# Altium integrated library NodeMCU.IntLib: 1 symbol
Pins are listed as number, name and electrical type; pins without a type are passive.

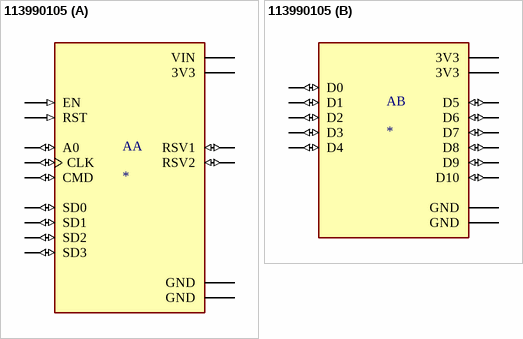
[diagram p0: symbol 113990105]

## 113990105
designator A
An open-source firmware and development kit that helps you to Prototype your IOT product within a few Lua script lines; MP: NodeMCU v2; MF: Seeed Technology; Availability: Unavailable; SnapEDA_Link: https://www.snapeda.com/parts/NodeMCU%20v2/Seeed%20Technology%20Co.%2C%20Ltd/view-part/378076/?ref=snap; Price: None; Value: *; Package: None
footprint SEEED_113990105
part A pins: J1_1 A0 (io), J1_2 RSV1 (io), J1_3 RSV2 (io), J1_4 SD3 (io), J1_5 SD2 (io), J1_6 SD1 (io), J1_7 CMD (io), J1_8 SD0 (io), J1_9 CLK (io), J1_10 GND (power), J1_11 3V3 (power), J1_12 EN (in), J1_13 RST (in), J1_14 GND (power), J1_15 VIN (power)
part B pins: J2_1 D0 (io), J2_2 D1 (io), J2_3 D2 (io), J2_4 D3 (io), J2_5 D4 (io), J2_6 3V3 (power), J2_7 GND (power), J2_8 D5 (io), J2_9 D6 (io), J2_10 D7 (io), J2_11 D8 (io), J2_12 D9 (io), J2_13 D10 (io), J2_14 GND (power), J2_15 3V3 (power)